# EAGLE library part NODEMCU_ESP8266 (library nodemcu_esp8266)
Node MCU V2 (ESP8266) Created by Harish
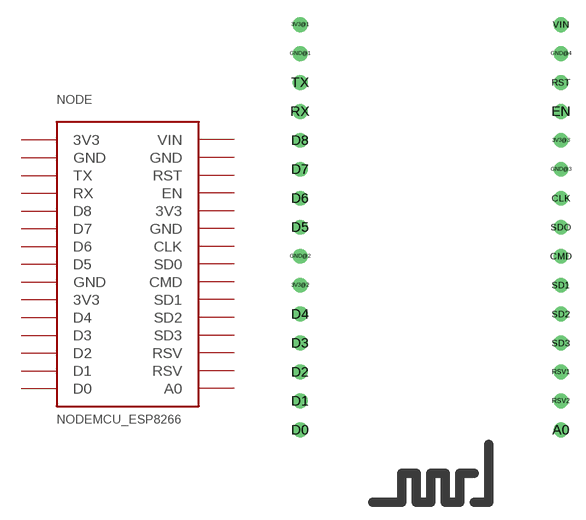
[diagram p0: symbol with the pads of NODEMCU_ESP8266; footprint NODEMCU_ESP8266]

Designator prefix NODE

## NODEMCU_ESP8266  [NODEMCU_ESP8266]
3V3@1  3V3  pwr
3V3@2  3V3  pwr
3V3@3  3V3  pwr
A0  A0
CLK  CLK
CMD  CMD
D0  D0
D1  D1
D2  D2
D3  D3
D4  D4
D5  D5
D6  D6
D7  D7
D8  D8
EN  EN
GND@1  GND  pwr
GND@2  GND  pwr
GND@3  GND  pwr
GND@4  GND  pwr
RST  RST
RSV1  RSV
RSV2  RSV
RX  RX
SD1  SD1
SD2  SD2
SD3  SD3
SDO  SD0
TX  TX
VIN  VIN  pwr

## Footprint NODEMCU_ESP8266 (pad centres in mm)
drill 0.8: 3V3@1 -11.43,19.05; 3V3@2 -11.43,-3.81; 3V3@3 11.43,8.89; A0 11.43,-16.51; CLK 11.43,3.81; CMD 11.43,-1.27; D0 -11.43,-16.51; D1 -11.43,-13.97; D2 -11.43,-11.43; D3 -11.43,-8.89; D4 -11.43,-6.35; D5 -11.43,1.27; D6 -11.43,3.81; D7 -11.43,6.35; D8 -11.43,8.89; EN 11.43,11.43; GND@1 -11.43,16.51; GND@2 -11.43,-1.27; GND@3 11.43,6.35; GND@4 11.43,16.51; RST 11.43,13.97; RSV1 11.43,-11.43; RSV2 11.43,-13.97; RX -11.43,11.43; SD1 11.43,-3.81; SD2 11.43,-6.35; SD3 11.43,-8.89; SDO 11.43,1.27; TX -11.43,13.97; VIN 11.43,19.05